# EAGLE library part INA199A*/B* (library usb)
MODEL | RESISTORS | GAIN INA199A1 / INA199B1 | R3=R4=20k | 50 INA199A2 / INA199B2 | R3=R4=10k | 100 INA199A3 / INA199B3 | R3=R4=5k | 200
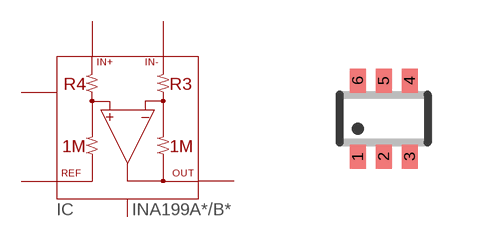
[diagram p7: symbol with the pads of SC70-6; footprint SC70-6]

Designator prefix IC

## INA199A/B  [SC70-6]
1  VREF
2  GND  sup
3  V+
4  VIN+  pwr
5  VIN-
6  OUT

## Footprint SC70-6 (pad centres in mm)
SC-70 Package - Fairchild
smd 0.4 x 0.6: 1 -0.65,-0.95; 2 0,-0.95; 3 0.65,-0.95; 4 0.65,0.95; 5 0,0.95; 6 -0.65,0.95